# Altium schematic symbol library CAP_1uF_1210.SchLib: 1 symbol
Pins are listed as number, name and electrical type; pins without a type are passive.

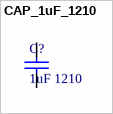
[diagram p0: symbol CAP_1uF_1210]

## CAP_1uF_1210
designator C?, comment 1uF 1210
CAP CER 1UF 50V X7R 1210; Manufacturer 1: KEMET; Manufacturer Product Number 1: C1210C105J5RACTU; Supplier 1: Digi-Key; Supplier Part Number 1: 399-C1210C105J5RAC7800CT-ND
footprint CAP_1210_M (Yageo KEMET Maximum Density (Level A) Footprint using Nominal Land Protusion (Level B), reference at part centre. Datasheet: https://www.yageogroup.com/content/datasheet/asset/file/KEM_C1006_X5R_SMD)
footprint CAP_1210_N (Yageo KEMET Nominal Density Footprint using Nominal Land Protusion (Level B), reference at part centre. Datasheet: https://www.yageogroup.com/content/datasheet/asset/file/KEM_C1006_X5R_SMD)
pins: 1, 2